# EAGLE library part ADN4650 (library analog-isolators)
None
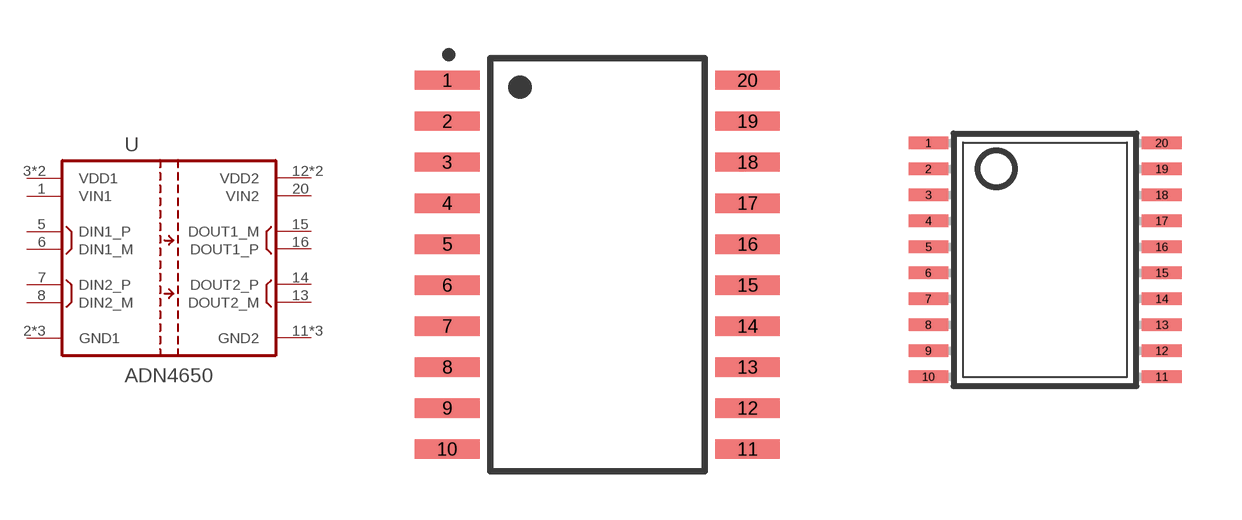
[diagram p0: symbol with the pads of SOIC127P1032X265-20N; footprints SOIC127P1032X265-20N, TSSOP20]

Designator prefix U

## ADN4650BRWZ (AVAILABILITY: Good; DESCRIPTION: DGTL ISO 5KV 2CH GEN PURP 20SOIC; MF: Analog Devices; MP: ADN4650BRWZ; PACKAGE: SOIC-20 Analog Devices; PRICE: 10.53 USD)  [SOIC127P1032X265-20N]
1  VIN1  pwr
2  GND1  pwr
3  VDD1  pwr
4  GND1  pwr
5  DIN1_P  in
6  DIN1_M  in
7  DIN2_P  in
8  DIN2_M  in
9  VDD1  pwr
10  GND1  pwr
11  GND2  pwr
12  VDD2  pwr
13  DOUT2_M  out
14  DOUT2_P  out
15  DOUT1_M  out
16  DOUT1_P  out
17  GND2  pwr
18  VDD2  pwr
19  GND2  pwr
20  VIN2  pwr

## ADN4650BRSZ  [TSSOP20]
Pads as for SOIC127P1032X265-20N

## Footprint SOIC127P1032X265-20N (pad centres in mm)
smd 2 x 0.6: 1 -4.65,5.715; 2 -4.65,4.445; 3 -4.65,3.175; 4 -4.65,1.905; 5 -4.65,0.635; 6 -4.65,-0.635; 7 -4.65,-1.905; 8 -4.65,-3.175; 9 -4.65,-4.445; 10 -4.65,-5.715; 11 4.65,-5.715; 12 4.65,-4.445; 13 4.65,-3.175; 14 4.65,-1.905; 15 4.65,-0.635; 16 4.65,0.635; 17 4.65,1.905; 18 4.65,3.175; 19 4.65,4.445; 20 4.65,5.715

## Footprint TSSOP20 (pad centres in mm)
Thin Shrink Small Outline Plastic 20 MAX3223-MAX3243.pdf
smd 0.991 x 0.305: 1 -2.918,2.925; 2 -2.918,2.275; 3 -2.918,1.625; 4 -2.918,0.975; 5 -2.918,0.325; 6 -2.918,-0.325; 7 -2.918,-0.975; 8 -2.918,-1.625; 9 -2.918,-2.275; 10 -2.918,-2.925; 11 2.918,-2.925; 12 2.918,-2.275; 13 2.918,-1.625; 14 2.918,-0.975; 15 2.918,-0.325; 16 2.918,0.325; 17 2.918,0.975; 18 2.918,1.625; 19 2.918,2.275; 20 2.918,2.925